# EAGLE library part AD5621 (library AD56x1)
AD5621 SPI DAC, SC70 package http://www.analog.com/static/imported-files/data_sheets/AD5601_5611_5621.pdf
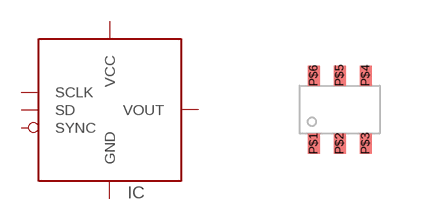
[diagram p0: symbol with the pads of SC70; footprint SC70]

Designator prefix IC

## AD5621  [SC70]
P$1  SYNC  in
P$2  SCLK  in
P$3  SD  in
P$4  VCC  pwr
P$5  GND  pwr
P$6  VOUT  out

## Footprint SC70 (pad centres in mm)
smd 0.3 x 0.5: P$1 -0.65,-0.85; P$2 0,-0.85; P$3 0.65,-0.85; P$4 0.65,0.85; P$5 0,0.85; P$6 -0.65,0.85